# Altium footprint library SplitHE_Int.PcbLib: 42 footprints (part 2 of 3)
Each footprint in its own frame and in the unit in brackets; x right, y up, seen from the top. Pads: shape width x height; smd on the part's side, far side on the other; paste and mask are expansions set on the pad; w line width, h text height; cw(c..) or ccw(c..) is an arc to the next point about the centre after c.
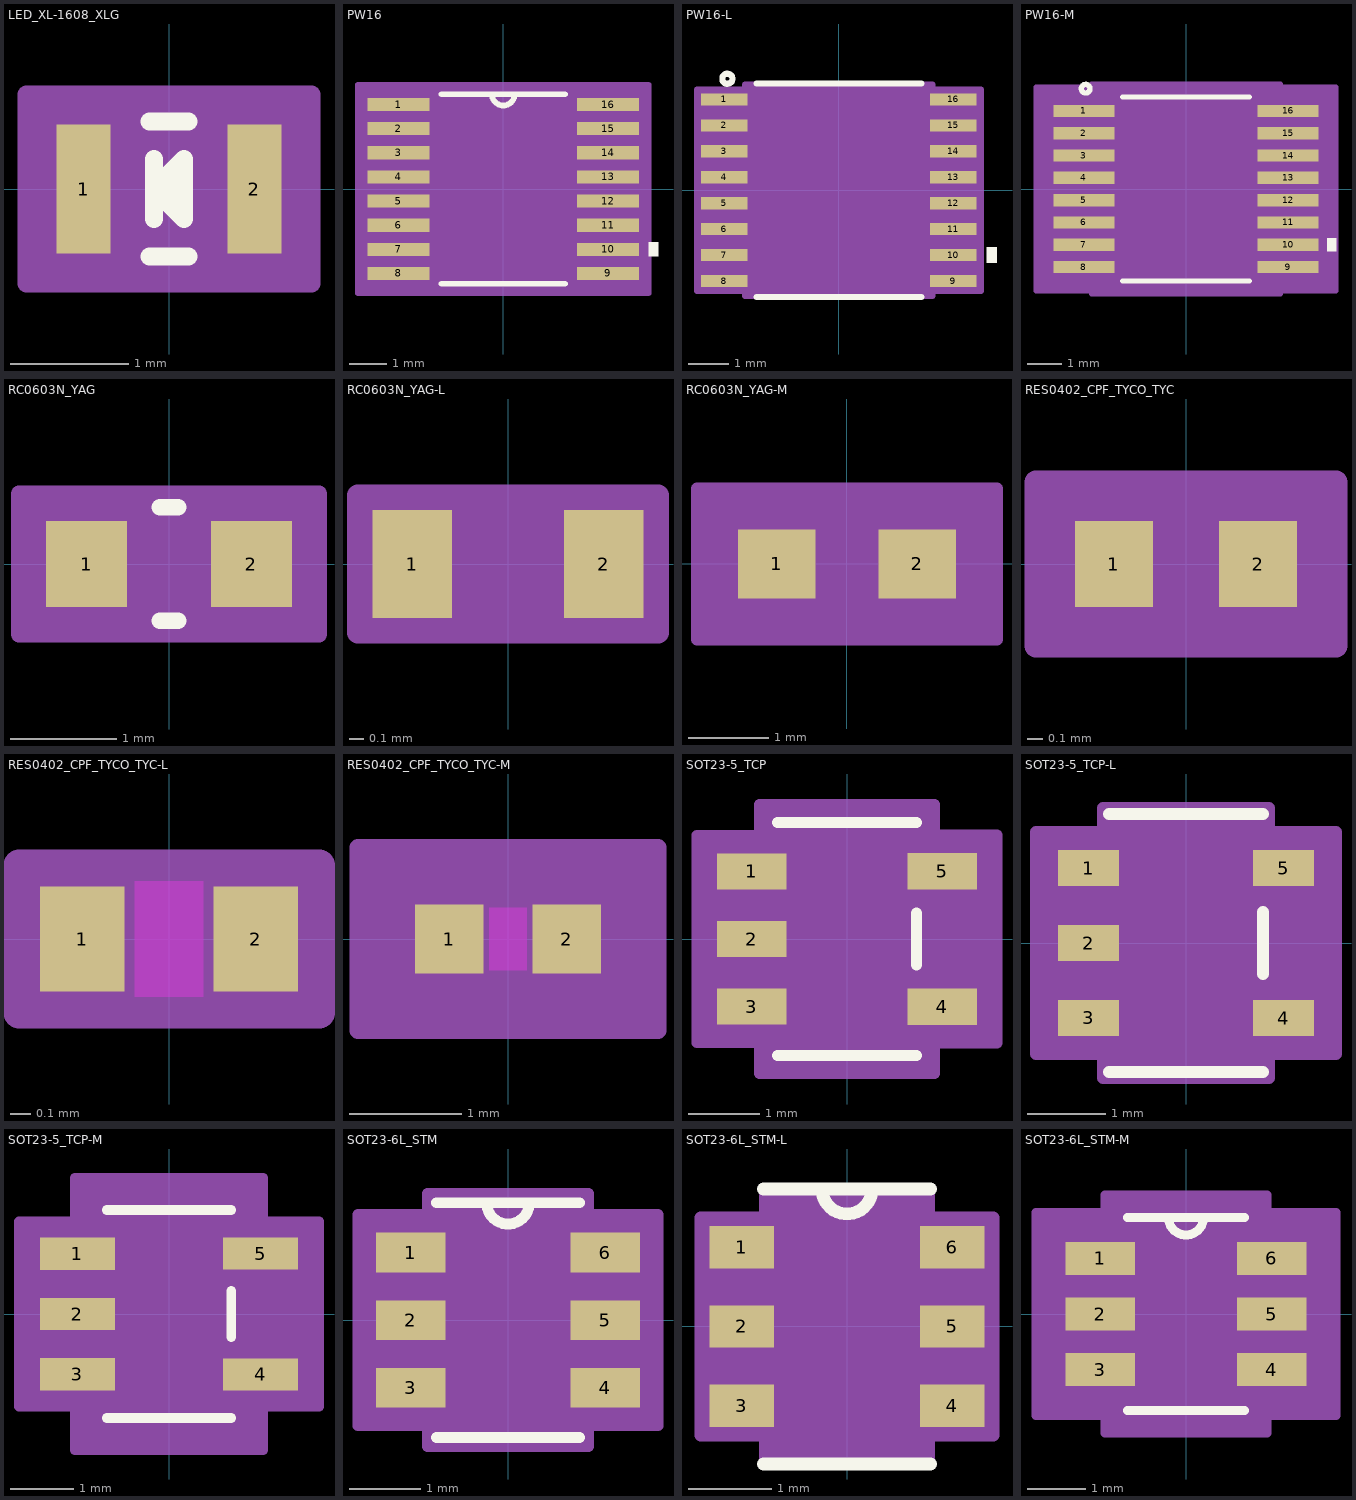
[diagram p1: the footprints below, top view; thin cyan lines are the x and y axes]

## LED_XL-1608_XLG [mil]
pads (2):
  rect 18x43 smd paste+0 mask+0: 1(-28.5,0) 2(28.5,0)
Top Overlay:
  lines w6: -6.44,-22.5 6.44,-22.5 ; -6.44,22.5 6.44,22.5 ; -5,-10 -5,10 ; -5,0 5,10 ; -5,0 5,-10 5,10 ; -5,0 5,0 5,10
Mechanical 13:
  lines w1: -33.5,-17.5 -33.5,17.5 33.5,17.5 33.5,-17.5 -33.5,-17.5
Mechanical 15:
  region: -43.5,-31.5 -47.5,-31.5 -47.5,31.5 -43.5,31.5 43.5,31.5 47.5,31.5 47.5,-31.5 43.5,-31.5
  lines w6: -47.5,-31.5 -43.5,-31.5 43.5,-31.5 47.5,-31.5 47.5,31.5 43.5,31.5 -43.5,31.5 -47.5,31.5 -47.5,-31.5
3D body "LED_XL-1608_XLG.step": height 20.12, standoff -0.12, extent -33.5,-17.6 33.5,17.6

## PW16 [mil]
pads (16):
  rect 66x14 smd paste-33 mask-33: 1(-111,89.57) 2(-111,63.98) 3(-111,38.39) 4(-111,12.8) 5(-111,-12.8) 6(-111,-38.39) 7(-111,-63.98) 8(-111,-89.57) 9(111,-89.57) 10(111,-63.98) 11(111,-38.39) 12(111,-12.8) 13(111,12.8) 14(111,38.39) 15(111,63.98) 16(111,89.57)
Top Overlay:
  region: 154,-56.48 164,-56.48 164,-71.48 154,-71.48
  lines w6: -65.5,-100.5 65.5,-100.5 ; -65.5,100.5 65.5,100.5 ; -12,100.5 ccw(c0,100.5) 12,100.5
Mechanical 13:
  lines w0: -12,100.5 ccw(c0,100.5) 12,100.5
  lines w1: -130,-95.57 -88.5,-95.57 -88.5,-83.57 -130,-83.57 -130,-95.57 ; -130,-69.98 -88.5,-69.98 -88.5,-57.98 -130,-57.98 -130,-69.98 ; -130,-44.39 -88.5,-44.39 -88.5,-32.39 -130,-32.39 -130,-44.39 ; -130,-18.8 -88.5,-18.8 -88.5,-6.8 -130,-6.8 -130,-18.8 ; -130,6.8 -88.5,6.8 -88.5,18.8 -130,18.8 -130,6.8 ; -130,32.39 -88.5,32.39 -88.5,44.39 -130,44.39 -130,32.39 ; -130,57.98 -88.5,57.98 -88.5,69.98 -130,69.98 -130,57.98 ; -130,83.57 -88.5,83.57 -88.5,95.57 -130,95.57 -130,83.57 ; -88.5,-100.5 -88.5,100.5 88.5,100.5 88.5,-100.5 -88.5,-100.5 ; 88.5,-95.57 130,-95.57 130,-83.57 88.5,-83.57 88.5,-95.57 ; 88.5,-69.98 130,-69.98 130,-57.98 88.5,-57.98 88.5,-69.98 ; 88.5,-44.39 130,-44.39 130,-32.39 88.5,-32.39 88.5,-44.39 ; 88.5,-18.8 130,-18.8 130,-6.8 88.5,-6.8 88.5,-18.8 ; 88.5,6.8 130,6.8 130,18.8 88.5,18.8 88.5,6.8 ; 88.5,32.39 130,32.39 130,44.39 88.5,44.39 88.5,32.39 ; 88.5,57.98 130,57.98 130,69.98 88.5,69.98 88.5,57.98 ; 88.5,83.57 130,83.57 130,95.57 88.5,95.57 88.5,83.57
Mechanical 15:
  region: 154,-110.5 -154,-110.5 -154,110.5 154,110.5
  lines w6: -154,-110.5 154,-110.5 154,110.5 -154,110.5 -154,-110.5
3D body "PW16.step": height 47.09, standoff 0, extent -130,-100.51 130,100.51

## PW16-L [mil]
pads (16):
  rect 46x12 smd paste+0 mask+0: 1(-113,89.57) 2(-113,63.98) 3(-113,38.39) 4(-113,12.8) 5(-113,-12.8) 6(-113,-38.39) 7(-113,-63.98) 8(-113,-89.57) 9(113,-89.57) 10(113,-63.98) 11(113,-38.39) 12(113,-12.8) 13(113,12.8) 14(113,38.39) 15(113,63.98) 16(113,89.57)
Top Overlay:
  circle w6: c-110,110 r5
  region: 146,-56.48 156,-56.48 156,-71.48 146,-71.48
  lines w6: -81.46,-105.5 81.46,-105.5 ; -81.46,105.5 81.46,105.5
Mechanical 13:
  lines w0: -12,100.5 ccw(c0,100.5) 12,100.5
  lines w1: -130,-95.57 -88.5,-95.57 -88.5,-83.57 -130,-83.57 -130,-95.57 ; -130,-69.98 -88.5,-69.98 -88.5,-57.98 -130,-57.98 -130,-69.98 ; -130,-44.39 -88.5,-44.39 -88.5,-32.39 -130,-32.39 -130,-44.39 ; -130,-18.8 -88.5,-18.8 -88.5,-6.8 -130,-6.8 -130,-18.8 ; -130,6.8 -88.5,6.8 -88.5,18.8 -130,18.8 -130,6.8 ; -130,32.39 -88.5,32.39 -88.5,44.39 -130,44.39 -130,32.39 ; -130,57.98 -88.5,57.98 -88.5,69.98 -130,69.98 -130,57.98 ; -130,83.57 -88.5,83.57 -88.5,95.57 -130,95.57 -130,83.57 ; -88.5,-100.5 -88.5,100.5 88.5,100.5 88.5,-100.5 -88.5,-100.5 ; 88.5,-95.57 130,-95.57 130,-83.57 88.5,-83.57 88.5,-95.57 ; 88.5,-69.98 130,-69.98 130,-57.98 88.5,-57.98 88.5,-69.98 ; 88.5,-44.39 130,-44.39 130,-32.39 88.5,-32.39 88.5,-44.39 ; 88.5,-18.8 130,-18.8 130,-6.8 88.5,-6.8 88.5,-18.8 ; 88.5,6.8 130,6.8 130,18.8 88.5,18.8 88.5,6.8 ; 88.5,32.39 130,32.39 130,44.39 88.5,44.39 88.5,32.39 ; 88.5,57.98 130,57.98 130,69.98 88.5,69.98 88.5,57.98 ; 88.5,83.57 130,83.57 130,95.57 88.5,95.57 88.5,83.57
  text "*" at -86,47.5 h50
Mechanical 15:
  region: -92.5,-99.57 -140,-99.57 -140,99.57 -92.5,99.57 -92.5,104.5 92.5,104.5 92.5,99.57 140,99.57 140,-99.57 92.5,-99.57 92.5,-104.5 -92.5,-104.5
  lines w6: -140,-99.57 -92.5,-99.57 -92.5,-104.5 92.5,-104.5 92.5,-99.57 140,-99.57 140,99.57 92.5,99.57 92.5,104.5 -92.5,104.5 -92.5,99.57 -140,99.57 -140,-99.57
3D body "PW16.step": height 47.09, standoff 0, extent -130,-100.51 130,100.51

## PW16-M [mil]
pads (16):
  rect 70x14 smd paste+0 mask+0: 1(-117,89.57) 2(-117,63.98) 3(-117,38.39) 4(-117,12.8) 5(-117,-12.8) 6(-117,-38.39) 7(-117,-63.98) 8(-117,-89.57) 9(117,-89.57) 10(117,-63.98) 11(117,-38.39) 12(117,-12.8) 13(117,12.8) 14(117,38.39) 15(117,63.98) 16(117,89.57)
Top Overlay:
  circle w6: c-115,115 r5
  region: 162,-56.48 172,-56.48 172,-71.48 162,-71.48
  lines w6: -72.42,-105.5 72.42,-105.5 ; -72.42,105.5 72.42,105.5
Mechanical 13:
  lines w0: -12,100.5 ccw(c0,100.5) 12,100.5
  lines w1: -130,-95.57 -88.5,-95.57 -88.5,-83.57 -130,-83.57 -130,-95.57 ; -130,-69.98 -88.5,-69.98 -88.5,-57.98 -130,-57.98 -130,-69.98 ; -130,-44.39 -88.5,-44.39 -88.5,-32.39 -130,-32.39 -130,-44.39 ; -130,-18.8 -88.5,-18.8 -88.5,-6.8 -130,-6.8 -130,-18.8 ; -130,6.8 -88.5,6.8 -88.5,18.8 -130,18.8 -130,6.8 ; -130,32.39 -88.5,32.39 -88.5,44.39 -130,44.39 -130,32.39 ; -130,57.98 -88.5,57.98 -88.5,69.98 -130,69.98 -130,57.98 ; -130,83.57 -88.5,83.57 -88.5,95.57 -130,95.57 -130,83.57 ; -88.5,-100.5 -88.5,100.5 88.5,100.5 88.5,-100.5 -88.5,-100.5 ; 88.5,-95.57 130,-95.57 130,-83.57 88.5,-83.57 88.5,-95.57 ; 88.5,-69.98 130,-69.98 130,-57.98 88.5,-57.98 88.5,-69.98 ; 88.5,-44.39 130,-44.39 130,-32.39 88.5,-32.39 88.5,-44.39 ; 88.5,-18.8 130,-18.8 130,-6.8 88.5,-6.8 88.5,-18.8 ; 88.5,6.8 130,6.8 130,18.8 88.5,18.8 88.5,6.8 ; 88.5,32.39 130,32.39 130,44.39 88.5,44.39 88.5,32.39 ; 88.5,57.98 130,57.98 130,69.98 88.5,69.98 88.5,57.98 ; 88.5,83.57 130,83.57 130,95.57 88.5,95.57 88.5,83.57
  text "*" at -86,47.5 h50
Mechanical 15:
  region: -108.5,-116.57 -172,-116.57 -172,116.57 -108.5,116.57 -108.5,120.5 108.5,120.5 108.5,116.57 172,116.57 172,-116.57 108.5,-116.57 108.5,-120.5 -108.5,-120.5
  lines w6: -172,-116.57 -172,116.57 -108.5,116.57 -108.5,120.5 108.5,120.5 108.5,116.57 172,116.57 172,-116.57 108.5,-116.57 108.5,-120.5 -108.5,-120.5 -108.5,-116.57 -172,-116.57
3D body "PW16.step": height 47.09, standoff 0, extent -130,-100.51 130,100.51

## RC0603N_YAG [mil]
pads (2):
  rect 30x32 smd paste+0 mask+0: 1(-30.5,0) 2(30.5,0)
Top Overlay:
  lines w6: -3.39,-21 3.39,-21 ; -3.39,21 3.39,21
Mechanical 13:
  lines w1: -31.5,-16 -31.5,16 ; -31.5,-16 31.5,-16 ; -31.5,-16 -15.5,-16 -15.5,16 -31.5,16 ; -31.5,-16 -31.5,16 ; -31.5,16 31.5,16 ; 31.5,-16 31.5,16 ; 31.5,-16 31.5,16 ; 31.5,-16 15.5,-16 15.5,16 31.5,16
Mechanical 15:
  region: 55.5,-26 -55.5,-26 -55.5,26 55.5,26
  lines w6: -55.5,-26 55.5,-26 55.5,26 -55.5,26 -55.5,-26
3D body "RC0603N_YAG.step": height 27.99, standoff 0, extent -31.5,-15.98 31.5,15.98

## RC0603N_YAG-L [mil]
pads (2):
  rect 22x30 smd paste+0 mask+0: 1(-26.5,0) 2(26.5,0)
Mechanical 13:
  lines w1: -31.5,-16 -31.5,16 ; -31.5,-16 31.5,-16 ; -31.5,-16 -15.5,-16 -15.5,16 -31.5,16 ; -31.5,-16 -31.5,16 ; -31.5,16 31.5,16 ; 31.5,-16 31.5,16 ; 31.5,-16 31.5,16 ; 31.5,-16 15.5,-16 15.5,16 31.5,16
Mechanical 15:
  region: 41.5,-19 -41.5,-19 -41.5,19 41.5,19
  lines w6: -41.5,-19 41.5,-19 41.5,19 -41.5,19 -41.5,-19
3D body "RC0603N_YAG.step": height 27.99, standoff 0, extent -31.5,-15.98 31.5,15.98

## RC0603N_YAG-M [mil]
pads (2):
  rect 38x34 smd paste+0 mask+0: 1(-34.5,0) 2(34.5,0)
Mechanical 13:
  lines w1: -31.5,-16 -31.5,16 ; -31.5,-16 31.5,-16 ; -31.5,-16 -15.5,-16 -15.5,16 -31.5,16 ; -31.5,-16 -31.5,16 ; -31.5,16 31.5,16 ; 31.5,-16 31.5,16 ; 31.5,-16 31.5,16 ; 31.5,-16 15.5,-16 15.5,16 31.5,16
Mechanical 15:
  region: 73.5,-37 -73.5,-37 -73.5,37 73.5,37
  lines w6: -73.5,-37 73.5,-37 73.5,37 -73.5,37 -73.5,-37
3D body "RC0603N_YAG.step": height 27.99, standoff 0, extent -31.5,-15.98 31.5,15.98

## RES0402_CPF_TYCO_TYC [mil]
pads (2):
  rect 20x22 smd paste+0 mask+0: 1(-18.5,0) 2(18.5,0)
Mechanical 13:
  lines w1: -20.5,-11 -20.5,11 ; -20.5,-11 -8.5,-11 -8.5,11 -20.5,11 ; -20.5,-11 20.5,-11 ; -20.5,-11 -20.5,11 ; -20.5,11 20.5,11 ; 20.5,-11 8.5,-11 8.5,11 20.5,11 ; 20.5,-11 20.5,11 ; 20.5,-11 20.5,11
Mechanical 15:
  region: 38.5,-21 -38.5,-21 -38.5,21 38.5,21
  lines w6: -38.5,-21 -38.5,21 38.5,21 38.5,-21 -38.5,-21
3D body "RES0402_CPF_TYCO_TYC.step": height 14.02, standoff 0, extent -20.51,-10.98 20.51,10.98

## RES0402_CPF_TYCO_TYC-L [mil]
pads (2):
  rect 16x20 smd paste+0 mask+0: 1(-16.5,0) 2(16.5,0)
Top Layer keep-out:
  region: -6.5,-9 -6.5,9 6.5,9 6.5,-9
Keep-Out Layer:
  region: -6.5,-11 -6.5,11 6.5,11 6.5,-11
Mechanical 13:
  lines w1: -20.5,-11 -20.5,11 ; -20.5,-11 -8.5,-11 -8.5,11 -20.5,11 ; -20.5,-11 20.5,-11 ; -20.5,-11 -20.5,11 ; -20.5,11 20.5,11 ; 20.5,-11 8.5,-11 8.5,11 20.5,11 ; 20.5,-11 20.5,11 ; 20.5,-11 20.5,11
Mechanical 15:
  region: 28.5,-14 -28.5,-14 -28.5,14 28.5,14
  lines w6: -28.5,-14 -28.5,14 28.5,14 28.5,-14 -28.5,-14
3D body "RES0402_CPF_TYCO_TYC.step": height 14.02, standoff 0, extent -20.51,-10.98 20.51,10.98

## RES0402_CPF_TYCO_TYC-M [mil]
pads (2):
  rect 24x24 smd paste+0 mask+0: 1(-20.5,0) 2(20.5,0)
Top Layer keep-out:
  region: -6.5,-9 -6.5,9 6.5,9 6.5,-9
Keep-Out Layer:
  region: -6.5,-11 -6.5,11 6.5,11 6.5,-11
Mechanical 13:
  lines w1: -20.5,-11 -20.5,11 ; -20.5,-11 -8.5,-11 -8.5,11 -20.5,11 ; -20.5,-11 20.5,-11 ; -20.5,-11 -20.5,11 ; -20.5,11 20.5,11 ; 20.5,-11 8.5,-11 8.5,11 20.5,11 ; 20.5,-11 20.5,11 ; 20.5,-11 20.5,11
Mechanical 15:
  region: 52.5,-32 -52.5,-32 -52.5,32 52.5,32
  lines w6: -52.5,-32 -52.5,32 52.5,32 52.5,-32 -52.5,-32
3D body "RES0402_CPF_TYCO_TYC.step": height 14.02, standoff 0, extent -20.51,-10.98 20.51,10.98

## SOT23-5_TCP [mil]
pads (5):
  rect 38.5x20 smd paste+0 mask+0: 1(-52.75,37.4) 2(-52.75,0) 3(-52.75,-37.4) 4(52.75,-37.5) 5(52.75,37.5)
Top Overlay:
  lines w6: -38.5,-64.5 38.5,-64.5 ; -38.5,64.5 38.5,64.5 ; 38.5,-14.4 38.5,14.4
Mechanical 13:
  lines w0: -12,59.5 ccw(c0,59.5) 12,59.5
  lines w1: -58,-47.4 -33.5,-47.4 -33.5,-27.4 -58,-27.4 -58,-47.4 ; -58,-10 -33.5,-10 -33.5,10 -58,10 -58,-10 ; -58,27.4 -33.5,27.4 -33.5,47.4 -58,47.4 -58,27.4 ; -33.5,-59.5 -33.5,59.5 33.5,59.5 33.5,-59.5 -33.5,-59.5 ; 33.5,-47.5 58,-47.5 58,-27.5 33.5,-27.5 33.5,-47.5 ; 33.5,27.5 58,27.5 58,47.5 33.5,47.5 33.5,27.5
  text "*" at -36,9.4 h50
Mechanical 15:
  region: 48.5,-74.5 -48.5,-74.5 -48.5,-57.4 -83,-57.4 -83,57.4 -48.5,57.4 -48.5,74.5 48.5,74.5 48.5,57.5 83,57.5 83,-57.5 48.5,-57.5
  lines w6: -83,-57.4 -83,57.4 -48.5,57.4 -48.5,74.5 48.5,74.5 48.5,57.5 83,57.5 83,-57.5 48.5,-57.5 48.5,-74.5 -48.5,-74.5 -48.5,-57.4 -83,-57.4
3D body "SOT23-5_TCP.step": height 49.09, standoff 0, extent -57.99,-59.49 57.99,59.49

## SOT23-5_TCP-L [mil]
pads (5):
  rect 30.5x18 smd paste+0 mask+0: 1(-48.75,37.4) 2(-48.75,0) 3(-48.75,-37.4) 4(48.75,-37.5) 5(48.75,37.5)
Top Overlay:
  lines w6: -38.5,-64.5 38.5,-64.5 ; -38.5,64.5 38.5,64.5 ; 38.5,-15.4 38.5,15.4
Mechanical 13:
  lines w0: -12,59.5 ccw(c0,59.5) 12,59.5
  lines w1: -58,-47.4 -33.5,-47.4 -33.5,-27.4 -58,-27.4 -58,-47.4 ; -58,-10 -33.5,-10 -33.5,10 -58,10 -58,-10 ; -58,27.4 -33.5,27.4 -33.5,47.4 -58,47.4 -58,27.4 ; -33.5,-59.5 -33.5,59.5 33.5,59.5 33.5,-59.5 -33.5,-59.5 ; 33.5,-47.5 58,-47.5 58,-27.5 33.5,-27.5 33.5,-47.5 ; 33.5,27.5 58,27.5 58,47.5 33.5,47.5 33.5,27.5
  text "*" at -36,7.4 h50
Mechanical 15:
  region: 41.5,-67.5 -41.5,-67.5 -41.5,-55.4 -75,-55.4 -75,55.4 -41.5,55.4 -41.5,67.5 41.5,67.5 41.5,55.5 75,55.5 75,-55.5 41.5,-55.5
  lines w6: -75,-55.4 -75,55.4 -41.5,55.4 -41.5,67.5 41.5,67.5 41.5,55.5 75,55.5 75,-55.5 41.5,-55.5 41.5,-67.5 -41.5,-67.5 -41.5,-55.4 -75,-55.4
3D body "SOT23-5_TCP.step": height 49.09, standoff 0, extent -57.99,-59.49 57.99,59.49

## SOT23-5_TCP-M [mil]
pads (5):
  rect 46.5x20 smd paste+0 mask+0: 1(-56.75,37.4) 2(-56.75,0) 3(-56.75,-37.4) 4(56.75,-37.5) 5(56.75,37.5)
Top Overlay:
  lines w6: -38.5,-64.5 38.5,-64.5 ; -38.5,64.5 38.5,64.5 ; 38.5,-14.4 38.5,14.4
Mechanical 13:
  lines w0: -12,59.5 ccw(c0,59.5) 12,59.5
  lines w1: -58,-47.4 -33.5,-47.4 -33.5,-27.4 -58,-27.4 -58,-47.4 ; -58,-10 -33.5,-10 -33.5,10 -58,10 -58,-10 ; -58,27.4 -33.5,27.4 -33.5,47.4 -58,47.4 -58,27.4 ; -33.5,-59.5 -33.5,59.5 33.5,59.5 33.5,-59.5 -33.5,-59.5 ; 33.5,-47.5 58,-47.5 58,-27.5 33.5,-27.5 33.5,-47.5 ; 33.5,27.5 58,27.5 58,47.5 33.5,47.5 33.5,27.5
  text "*" at -36,9.4 h50
Mechanical 15:
  region: 58.5,-84.5 -58.5,-84.5 -58.5,-57.4 -93,-57.4 -93,57.4 -58.5,57.4 -58.5,84.5 58.5,84.5 58.5,57.5 93,57.5 93,-57.5 58.5,-57.5
  lines w6: -93,-57.4 -93,57.4 -58.5,57.4 -58.5,84.5 58.5,84.5 58.5,57.5 93,57.5 93,-57.5 58.5,-57.5 58.5,-84.5 -58.5,-84.5 -58.5,-57.4 -93,-57.4
3D body "SOT23-5_TCP.step": height 49.09, standoff 0, extent -57.99,-59.49 57.99,59.49

## SOT23-6L_STM [mil]
pads (6):
  rect 38.5x22 smd paste+0 mask+0: 1(-53.75,37.4) 2(-53.75,0) 3(-53.75,-37.4) 4(53.75,-37.4) 5(53.75,0) 6(53.75,37.4)
Top Overlay:
  lines w6: -39.5,-65 39.5,-65 ; -39.5,65 39.5,65 ; -11.81,65 ccw(c0,65) 11.81,65
Mechanical 13:
  lines w0: -12,60 ccw(c0,60) 12,60
  lines w1: -59,-47.4 -59,-27.4 -34.5,-27.4 -34.5,-47.4 -59,-47.4 ; -59,-10 -59,10 -34.5,10 -34.5,-10 -59,-10 ; -59,27.4 -59,47.4 -34.5,47.4 -34.5,27.4 -59,27.4 ; -34.5,-60 34.5,-60 34.5,60 -34.5,60 -34.5,-60 ; 34.5,-47.4 34.5,-27.4 59,-27.4 59,-47.4 34.5,-47.4 ; 34.5,-10 34.5,10 59,10 59,-10 34.5,-10 ; 34.5,27.4 34.5,47.4 59,47.4 59,27.4 34.5,27.4
  text "*" at -32,7 h50
Mechanical 15:
  region: -44.5,-58.4 -83,-58.4 -83,58.4 -44.5,58.4 -44.5,70 44.5,70 44.5,58.4 83,58.4 83,-58.4 44.5,-58.4 44.5,-70 -44.5,-70
  lines w6: -83,-58.4 -83,58.4 -44.5,58.4 -44.5,70 44.5,70 44.5,58.4 83,58.4 83,-58.4 44.5,-58.4 44.5,-70 -44.5,-70 -44.5,-58.4 -83,-58.4
3D body "SOT23-6L_STM.step": height 57.09, standoff 0, extent -59.02,-60 59.02,60

## SOT23-6L_STM-L [mil]
pads (6):
  rect 30.5x20 smd paste+0 mask+0: 1(-49.75,37.4) 2(-49.75,0) 3(-49.75,-37.4) 4(49.75,-37.4) 5(49.75,0) 6(49.75,37.4)
Top Overlay:
  lines w6: -39.5,-65 39.5,-65 ; -39.5,65 39.5,65 ; -11.81,65 ccw(c0,65) 11.81,65
Mechanical 13:
  lines w0: -12,60 ccw(c0,60) 12,60
  lines w1: -59,-47.4 -59,-27.4 -34.5,-27.4 -34.5,-47.4 -59,-47.4 ; -59,-10 -59,10 -34.5,10 -34.5,-10 -59,-10 ; -59,27.4 -59,47.4 -34.5,47.4 -34.5,27.4 -59,27.4 ; -34.5,-60 34.5,-60 34.5,60 -34.5,60 -34.5,-60 ; 34.5,-47.4 34.5,-27.4 59,-27.4 59,-47.4 34.5,-47.4 ; 34.5,-10 34.5,10 59,10 59,-10 34.5,-10 ; 34.5,27.4 34.5,47.4 59,47.4 59,27.4 34.5,27.4
  text "*" at -32,7 h50
Mechanical 15:
  region: -38.5,-51.4 -69,-51.4 -69,51.4 -38.5,51.4 -38.5,64 38.5,64 38.5,51.4 69,51.4 69,-51.4 38.5,-51.4 38.5,-64 -38.5,-64
  lines w6: -69,-51.4 -69,51.4 -38.5,51.4 -38.5,64 38.5,64 38.5,51.4 69,51.4 69,-51.4 38.5,-51.4 38.5,-64 -38.5,-64 -38.5,-51.4 -69,-51.4
3D body "SOT23-6L_STM.step": height 57.09, standoff 0, extent -59.02,-60 59.02,60

## SOT23-6L_STM-M [mil]
pads (6):
  rect 46.5x22 smd paste+0 mask+0: 1(-57.75,37.4) 2(-57.75,0) 3(-57.75,-37.4) 4(57.75,-37.4) 5(57.75,0) 6(57.75,37.4)
Top Overlay:
  lines w6: -39.5,-65 39.5,-65 ; -39.5,65 39.5,65 ; -11.81,65 ccw(c0,65) 11.81,65
Mechanical 13:
  lines w0: -12,60 ccw(c0,60) 12,60
  lines w1: -59,-47.4 -59,-27.4 -34.5,-27.4 -34.5,-47.4 -59,-47.4 ; -59,-10 -59,10 -34.5,10 -34.5,-10 -59,-10 ; -59,27.4 -59,47.4 -34.5,47.4 -34.5,27.4 -59,27.4 ; -34.5,-60 34.5,-60 34.5,60 -34.5,60 -34.5,-60 ; 34.5,-47.4 34.5,-27.4 59,-27.4 59,-47.4 34.5,-47.4 ; 34.5,-10 34.5,10 59,10 59,-10 34.5,-10 ; 34.5,27.4 34.5,47.4 59,47.4 59,27.4 34.5,27.4
  text "*" at -32,7 h50
Mechanical 15:
  region: -54.5,-68.4 -101,-68.4 -101,68.4 -54.5,68.4 -54.5,80 54.5,80 54.5,68.4 101,68.4 101,-68.4 54.5,-68.4 54.5,-80 -54.5,-80
  lines w6: -101,-68.4 -101,68.4 -54.5,68.4 -54.5,80 54.5,80 54.5,68.4 101,68.4 101,-68.4 54.5,-68.4 54.5,-80 -54.5,-80 -54.5,-68.4 -101,-68.4
3D body "SOT23-6L_STM.step": height 57.09, standoff 0, extent -59.02,-60 59.02,60